# EAGLE library part ICS43432 (library MF_Sensors)
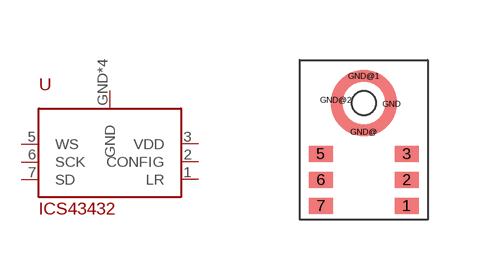
[diagram p1: symbol with the pads of ICS43432; footprint ICS43432]

Designator prefix -

## ICS43432  [ICS43432]
1  LR
2  CONFIG
3  VDD
5  WS
6  SCK
7  SD
GND  GND
GND@  GND
GND@1  GND
GND@2  GND

## Footprint ICS43432 (pad centres in mm)
smd 0.6 x 0.4: 1 1.075,-1.92; 2 1.075,-1.27; 3 1.075,-0.62; 5 -1.075,-0.62; 6 -1.075,-1.27; 7 -1.075,-1.92
smd 0.1 x 0.1: GND 0.7,0.63; GND@ 0,-0.07; GND@1 0,1.33; GND@2 -0.7,0.73
hole 0.6 at 0,0.655